# Altium footprint library ESC PCB Lib.PcbLib: 23 footprints (part 2 of 2)
Each footprint in its own frame and in the unit in brackets; x right, y up, seen from the top. Pads: shape width x height; smd on the part's side, far side on the other; paste and mask are expansions set on the pad; w line width, h text height; cw(c..) or ccw(c..) is an arc to the next point about the centre after c.
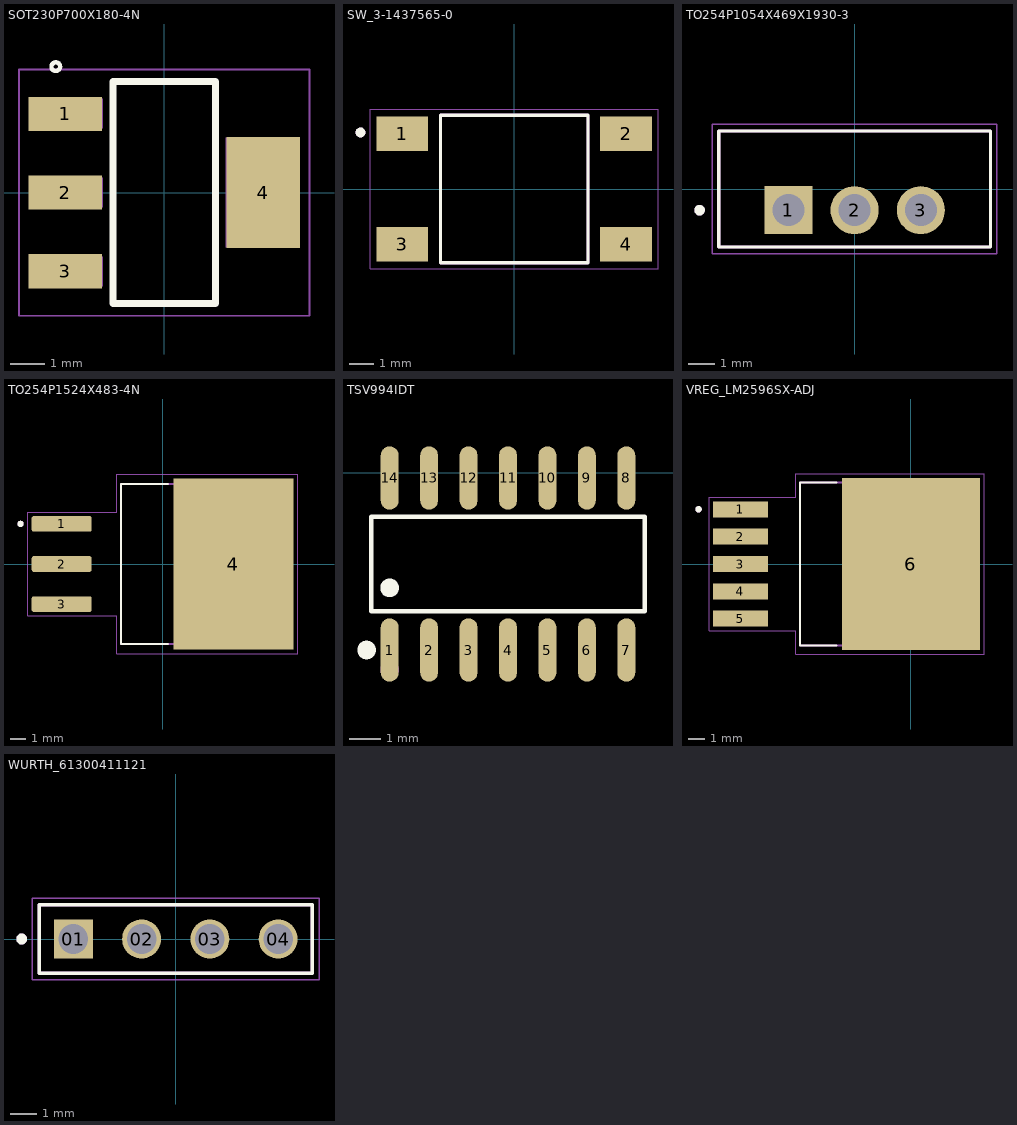
[diagram p1: the footprints below, top view; thin cyan lines are the x and y axes]

## SOT230P700X180-4N [mm]
pads (4):
  rect 2.15x1 smd: 1(-2.9,2.3) 2(-2.9,0) 3(-2.9,-2.3)
  rect 2.15x3.25 smd: 4(2.9,0)
Top Overlay:
  circle w0.127: c-3.175,3.683 r0.127
  lines w0.203: -1.5,-3.25 -1.5,3.25 1.5,3.25 1.5,-3.25 -1.5,-3.25
Mechanical 13:
  region: -1.803,-2.744 -3.658,-2.744 -3.658,-1.88 -1.803,-1.88
  region: -1.805,1.879 -3.658,1.879 -3.658,2.745 -1.805,2.745
  region: -1.805,-0.435 -3.661,-0.435 -3.661,0.434 -1.805,0.434
  region: 3.659,-1.6 1.804,-1.6 1.804,1.599 3.659,1.599
  region: -1.803,-2.746 -3.66,-2.746 -3.66,-1.88 -1.803,-1.88
  region: -1.807,1.878 -3.659,1.878 -3.659,2.746 -1.807,2.746
  region: -1.804,-0.433 -3.659,-0.433 -3.659,0.433 -1.804,0.433
  region: 3.66,-1.6 1.804,-1.6 1.804,1.598 3.66,1.598
Mechanical 15:
  lines w0.05: -4.25,-3.6 -4.25,3.6 4.25,3.6 4.25,-3.6 -4.25,-3.6
3D body "step_temp.STEP": height 1.8, standoff 0, extent -3.25,-3.499 3.25,3.499

## SW_3-1437565-0 [mm]
pads (4):
  rect 2.1x1.4 smd: 1(-4.55,2.25) 2(4.55,2.25) 3(-4.55,-2.25) 4(4.55,-2.25)
Top Overlay:
  circle w0.2: c-6.25,2.3 r0.1
  lines w0.127: -3,-3 3,-3 3,3 -3,3 -3,-3
Mechanical 13:
  circle w0.2: c-6.25,2.3 r0.1
  lines w0.127: -3,-3 -3,3 3,3 3,-3 -3,-3
Mechanical 15:
  lines w0.05: -5.85,-3.25 -5.85,3.25 5.85,3.25 5.85,-3.25 -5.85,-3.25

## TO254P1054X469X1930-3 [mm]
height 19.3
pads (3):
  rect 1.845x1.845 / inner round 1.845 / far side rect 1.845x1.845 hole 1.23: 1(-2.54,-0.81)
  round 1.845 hole 1.23: 2(0,-0.81) 3(2.54,-0.81)
Top Overlay:
  circle w0.2: c-5.94,-0.81 r0.1
  lines w0.127: -5.208,-2.222 -5.208,2.222 5.208,2.222 5.208,-2.222 -5.208,-2.222
Mechanical 13:
  circle w0.2: c-5.94,-0.81 r0.1
  lines w0.127: -5.208,-2.222 5.208,-2.222 5.208,2.222 -5.208,2.222 -5.208,-2.222
Mechanical 15:
  lines w0.05: -5.457,-2.472 -5.457,2.472 5.457,2.472 5.457,-2.472 -5.457,-2.472
3D body "step_temp.STEP": height 19.3, standoff -10.03, extent -5.207,-2.222 5.207,2.222

## TO254P1524X483-4N [mm]
pads (4):
  rrect25% 3.79x0.99 smd: 1(-6.4,2.54) 2(-6.4,0) 3(-6.4,-2.54)
  rect 7.62x10.84 smd paste-6: 4(4.48,0)
Top Overlay:
  circle w0.2: c-9,2.54 r0.1
  lines w0.127: 0.35,-5.08 -2.648,-5.08 -2.648,5.08 0.35,5.08
Top Paste:
  region: 5.205,0.27 3.755,0.27 3.755,1.53 5.205,1.53
  region: 5.205,2.07 3.755,2.07 3.755,3.33 5.205,3.33
  region: 5.205,3.87 3.755,3.87 3.755,5.13 5.205,5.13
  region: 5.205,-1.53 3.755,-1.53 3.755,-0.27 5.205,-0.27
  region: 5.205,-3.33 3.755,-3.33 3.755,-2.07 5.205,-2.07
  region: 5.205,-5.13 3.755,-5.13 3.755,-3.87 5.205,-3.87
  region: 7.745,0.27 6.295,0.27 6.295,1.53 7.745,1.53
  region: 7.745,2.07 6.295,2.07 6.295,3.33 7.745,3.33
  region: 7.745,3.87 6.295,3.87 6.295,5.13 7.745,5.13
  region: 7.745,-1.53 6.295,-1.53 6.295,-0.27 7.745,-0.27
  region: 7.745,-3.33 6.295,-3.33 6.295,-2.07 7.745,-2.07
  region: 7.745,-5.13 6.295,-5.13 6.295,-3.87 7.745,-3.87
  region: 2.665,0.27 1.215,0.27 1.215,1.53 2.665,1.53
  region: 2.665,2.07 1.215,2.07 1.215,3.33 2.665,3.33
  region: 2.665,3.87 1.215,3.87 1.215,5.13 2.665,5.13
  region: 2.665,-1.53 1.215,-1.53 1.215,-0.27 2.665,-0.27
  region: 2.665,-3.33 1.215,-3.33 1.215,-2.07 2.665,-2.07
  region: 2.665,-5.13 1.215,-5.13 1.215,-3.87 2.665,-3.87
Mechanical 13:
  circle w0.2: c-9,2.54 r0.1
  lines w0.127: -2.648,-5.08 6.373,-5.08 6.373,5.08 -2.648,5.08 -2.648,-5.08
Mechanical 15:
  lines w0.05: -8.545,-3.285 -8.545,3.285 -2.898,3.285 -2.898,5.67 8.54,5.67 8.54,-5.67 -2.898,-5.67 -2.898,-3.285 -8.545,-3.285
3D body "step_temp.STEP": height 4.65, standoff -0.15, extent -7.175,-5.08 7.175,5.08

## TSV994IDT [mm]
pads (14):
  oval 0.574x2.038 smd paste+0 mask+0.051: 1(26.036,-5.712) 2(27.306,-5.712) 3(28.576,-5.712) 4(29.846,-5.712) 5(31.116,-5.712) 6(32.386,-5.712) 7(33.656,-5.712) 8(33.656,-0.174) 9(32.386,-0.174) 10(31.116,-0.174) 11(29.846,-0.174) 12(28.576,-0.174) 13(27.306,-0.174) 14(26.036,-0.174)
Top Overlay:
  circle w0.3: c25.296,-5.712 r0.15
  circle w0.3: c26.036,-3.712 r0.15
  lines w0.152: 25.444,-4.464 34.247,-4.464 34.247,-1.422 25.444,-1.422 25.444,-4.464
Mechanical 15:
  circle w0.3: c26.036,-6.343 r0.15

## VREG_LM2596SX-ADJ [mm]
pads (6):
  rect 3.4x1 smd paste-0.05 mask+0.07: 1(-10.6,3.4) 2(-10.6,1.7) 3(-10.6,0) 4(-10.6,-1.7) 5(-10.6,-3.4)
  rect 8.6x10.7 smd paste-0.05 mask+0.07: 6(0,0)
Top Overlay:
  circle w0.2: c-13.2,3.4 r0.1
  lines w0.127: -4.62,-5.08 -6.905,-5.08 -6.905,5.08 -4.62,5.08
Mechanical 13:
  circle w0.2: c-13.2,3.4 r0.1
  lines w0.127: -6.905,-5.08 2.02,-5.08 2.02,5.08 -6.905,5.08 -6.905,-5.08
Mechanical 15:
  lines w0.05: -12.55,-4.15 -12.55,4.15 -7.155,4.15 -7.155,5.6 4.55,5.6 4.55,-5.6 -7.155,-5.6 -7.155,-4.15 -12.55,-4.15
3D body "step_temp.STEP": height 4.65, standoff -0.15, extent -7.175,-5.08 7.175,5.08

## WURTH_61300411121 [mm]
pads (4):
  rect 1.45x1.45 / inner round 1.45 / far side rect 1.45x1.45 hole 1.1 mask+0.05: 01(-3.81,0)
  round 1.45 hole 1.1 mask+0.05: 02(-1.27,0) 03(1.27,0) 04(3.81,0)
Top Overlay:
  circle w0.2: c-5.73,0 r0.1
  lines w0.127: -5.08,-1.27 -5.08,1.27 5.08,1.27 5.08,-1.27 -5.08,-1.27
Mechanical 13:
  circle w0.2: c-5.73,0 r0.1
  lines w0.127: -5.08,-1.27 -5.08,1.27 5.08,1.27 5.08,-1.27 -5.08,-1.27
Mechanical 15:
  lines w0.05: -5.33,-1.52 -5.33,1.52 5.33,1.52 5.33,-1.52 -5.33,-1.52